# EAGLE library part WM8804 (library AMP2-ICs)
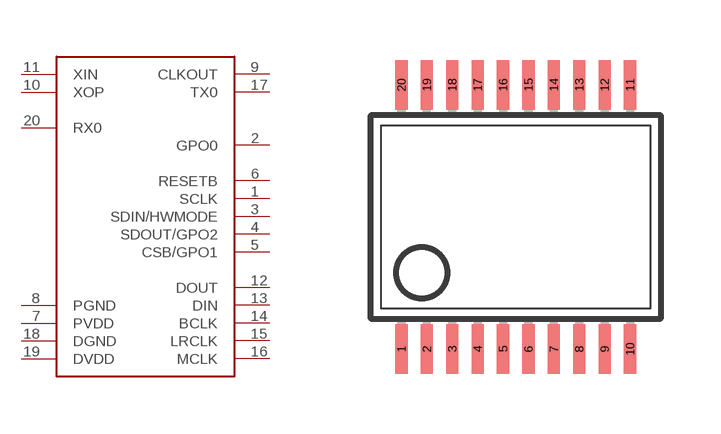
[diagram p67: symbol with the pads of SSOP20DB; footprint SSOP20DB]

Designator prefix -

## WM8804  [SSOP20DB]
1  SCLK
2  GPO0
3  SDIN/HWMODE
4  SDOUT/GPO2
5  CSB/GPO1
6  RESETB
7  PVDD
8  PGND
9  CLKOUT
10  XOP
11  XIN
12  DOUT
13  DIN
14  BCLK
15  LRCLK
16  MCLK
17  TX0
18  DGND
19  DVDD
20  RX0

## Footprint SSOP20DB (pad centres in mm)
Small Shrink Outline Package
smd 0.305 x 1.245: 1 -2.857,-3.302; 2 -2.222,-3.302; 3 -1.587,-3.302; 4 -0.952,-3.302; 5 -0.317,-3.302; 6 0.318,-3.302; 7 0.953,-3.302; 8 1.588,-3.302; 9 2.223,-3.302; 10 2.858,-3.302; 11 2.858,3.302; 12 2.223,3.302; 13 1.588,3.302; 14 0.953,3.302; 15 0.318,3.302; 16 -0.317,3.302; 17 -0.952,3.302; 18 -1.587,3.302; 19 -2.222,3.302; 20 -2.857,3.302